# Altium footprint library Microchip.PcbLib: 4 footprints
Each footprint in its own frame and in the unit in brackets; x right, y up, seen from the top. Pads: shape width x height; smd on the part's side, far side on the other; paste and mask are expansions set on the pad; w line width, h text height; cw(c..) or ccw(c..) is an arc to the next point about the centre after c.
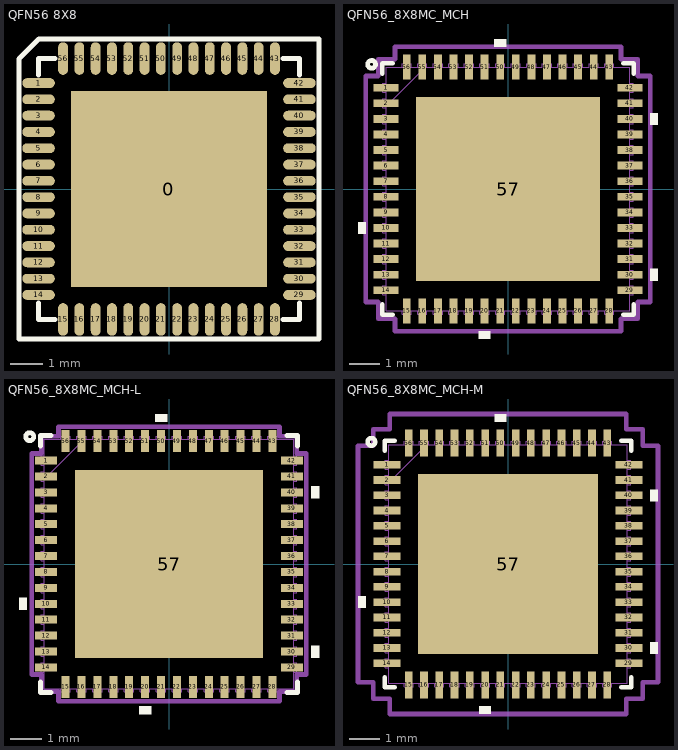
[diagram p0: the footprints below, top view; thin cyan lines are the x and y axes]

## QFN56 8X8 [mm]
pads (57):
  rect 6x6 smd: 0(0,0)
  oval 1x0.3 smd: 1(-4,3.25) 2(-4,2.75) 3(-4,2.25) 4(-4,1.75) 5(-4,1.25) 6(-4,0.75) 7(-4,0.25) 8(-4,-0.25) 9(-4,-0.75) 10(-4,-1.25) 11(-4,-1.75) 12(-4,-2.25) 13(-4,-2.75) 14(-4,-3.25) 29(4,-3.25) 30(4,-2.75) 31(4,-2.25) 32(4,-1.75) 33(4,-1.25) 34(4,-0.75) 35(4,-0.25) 36(4,0.25) 37(4,0.75) 38(4,1.25) 39(4,1.75) 40(4,2.25) 41(4,2.75) 42(4,3.25)
  oval 0.3x1 smd: 15(-3.25,-4) 16(-2.75,-4) 17(-2.25,-4) 18(-1.75,-4) 19(-1.25,-4) 20(-0.75,-4) 21(-0.25,-4) 22(0.25,-4) 23(0.75,-4) 24(1.25,-4) 25(1.75,-4) 26(2.25,-4) 27(2.75,-4) 28(3.25,-4) 43(3.25,4) 44(2.75,4) 45(2.25,4) 46(1.75,4) 47(1.25,4) 48(0.75,4) 49(0.25,4) 50(-0.25,4) 51(-0.75,4) 52(-1.25,4) 53(-1.75,4) 54(-2.25,4) 55(-2.75,4) 56(-3.25,4)
Top Overlay:
  lines w0.152: -4.6,3.989 -4.6,3.993 ; -4,-3.5 -4,-4 -3.5,-4 ; -4,3.5 -4,4 -3.5,4 ; 3.5,-4 4,-4 4,-3.5 ; 3.5,4 4,4 4,3.5 ; -4.6,3.993 -3.993,4.6 4.6,4.6 4.6,-4.6 -4.6,-4.6 -4.6,3.993
3D body "ALSRobot-QFN56 8x8.STEP": height 0.95, standoff 0, extent -4.015,-4.015 4.015,4.015

## QFN56_8X8MC_MCH [mil]
pads (57):
  rect 32x10 smd: 1(-156.5,130) 2(-156.5,110) 3(-156.5,90) 4(-156.5,70) 5(-156.5,50) 6(-156.5,30) 7(-156.5,10) 8(-156.5,-10) 9(-156.5,-30) 10(-156.5,-50) 11(-156.5,-70) 12(-156.5,-90) 13(-156.5,-110) 14(-156.5,-130) 29(156.5,-130) 30(156.5,-110) 31(156.5,-90) 32(156.5,-70) 33(156.5,-50) 34(156.5,-30) 35(156.5,-10) 36(156.5,10) 37(156.5,30) 38(156.5,50) 39(156.5,70) 40(156.5,90) 41(156.5,110) 42(156.5,130)
  rect 10x32 smd: 15(-130,-156.5) 16(-110,-156.5) 17(-90,-156.5) 18(-70,-156.5) 19(-50,-156.5) 20(-30,-156.5) 21(-10,-156.5) 22(10,-156.5) 23(30,-156.5) 24(50,-156.5) 25(70,-156.5) 26(90,-156.5) 27(110,-156.5) 28(130,-156.5) 43(130,156.5) 44(110,156.5) 45(90,156.5) 46(70,156.5) 47(50,156.5) 48(30,156.5) 49(10,156.5) 50(-10,156.5) 51(-30,156.5) 52(-50,156.5) 53(-70,156.5) 54(-90,156.5) 55(-110,156.5) 56(-130,156.5)
  rect 236x236 smd: 57(0,0)
Top Overlay:
  circle w6: c-175,160 r5
  region: -182.5,-42.5 -192.5,-42.5 -192.5,-57.5 -182.5,-57.5
  region: -22.5,-182.5 -37.5,-182.5 -37.5,-192.5 -22.5,-192.5
  region: 182.5,-102.5 192.5,-102.5 192.5,-117.5 182.5,-117.5
  region: 182.5,97.5 192.5,97.5 192.5,82.5 182.5,82.5
  region: -2.5,182.5 -17.5,182.5 -17.5,192.5 -2.5,192.5
  lines w6: -161.5,-148.1 -161.5,-161.5 -148.1,-161.5 ; -161.5,148.1 -161.5,161.5 -148.1,161.5 ; 148.1,-161.5 161.5,-161.5 161.5,-148.1 ; 148.1,161.5 161.5,161.5 161.5,148.1
Top Paste:
  drawing of 64 lines, arcs and shapes, not listed
Top Solder:
  region: -120.5,100.87 -120.5,120.5 120.5,120.5 120.5,100.87
  region: -120.5,69.87 -120.5,85.13 120.5,85.13 120.5,69.87
  region: -120.5,38.87 -120.5,54.13 120.5,54.13 120.5,38.87
  region: -120.5,7.87 -120.5,23.13 120.5,23.13 120.5,7.87
  region: -120.5,-23.13 -120.5,-7.87 120.5,-7.87 120.5,-23.13
  region: -120.5,-54.13 -120.5,-38.87 120.5,-38.87 120.5,-54.13
  region: -120.5,-85.13 -120.5,-69.87 120.5,-69.87 120.5,-85.13
  region: -120.5,-120.5 -120.5,-100.87 120.5,-100.87 120.5,-120.5
  region: -120.5,-120.5 -120.5,120.5 -100.87,120.5 -100.87,-120.5
  region: -69.87,-120.5 -69.87,120.5 -85.13,120.5 -85.13,-120.5
  region: -38.87,-120.5 -38.87,120.5 -54.13,120.5 -54.13,-120.5
  region: -7.87,-120.5 -7.87,120.5 -23.13,120.5 -23.13,-120.5
  region: 23.13,-120.5 23.13,120.5 7.87,120.5 7.87,-120.5
  region: 54.13,-120.5 54.13,120.5 38.87,120.5 38.87,-120.5
  region: 85.13,-120.5 85.13,120.5 69.87,120.5 69.87,-120.5
  region: 100.87,-120.5 100.87,120.5 120.5,120.5 120.5,-120.5
Mechanical 13:
  drawing of 229 lines, arcs and shapes, not listed
Mechanical 15:
  circle w1.97: c0,0 r13.78
  lines w1.97: -19.68,0 19.68,0 ; 0,-19.68 0,19.68
  lines w6: -182.5,-145 -166.5,-145 -166.5,-166.5 -145,-166.5 -145,-182.5 145,-182.5 145,-166.5 166.5,-166.5 166.5,-145 182.5,-145 182.5,145 166.5,145 166.5,166.5 145,166.5 145,182.5 -145,182.5 -145,166.5 -166.5,166.5 -166.5,145 -182.5,145 -182.5,-145
3D body "ALSRobot-QFN56 8x8.STEP": height 37.4, standoff 0, extent -158.07,-158.08 158.08,158.07

## QFN56_8X8MC_MCH-L [mil]
pads (57):
  rect 28x10 smd: 1(-154.5,130) 2(-154.5,110) 3(-154.5,90) 4(-154.5,70) 5(-154.5,50) 6(-154.5,30) 7(-154.5,10) 8(-154.5,-10) 9(-154.5,-30) 10(-154.5,-50) 11(-154.5,-70) 12(-154.5,-90) 13(-154.5,-110) 14(-154.5,-130) 29(154.5,-130) 30(154.5,-110) 31(154.5,-90) 32(154.5,-70) 33(154.5,-50) 34(154.5,-30) 35(154.5,-10) 36(154.5,10) 37(154.5,30) 38(154.5,50) 39(154.5,70) 40(154.5,90) 41(154.5,110) 42(154.5,130)
  rect 10x28 smd: 15(-130,-154.5) 16(-110,-154.5) 17(-90,-154.5) 18(-70,-154.5) 19(-50,-154.5) 20(-30,-154.5) 21(-10,-154.5) 22(10,-154.5) 23(30,-154.5) 24(50,-154.5) 25(70,-154.5) 26(90,-154.5) 27(110,-154.5) 28(130,-154.5) 43(130,154.5) 44(110,154.5) 45(90,154.5) 46(70,154.5) 47(50,154.5) 48(30,154.5) 49(10,154.5) 50(-10,154.5) 51(-30,154.5) 52(-50,154.5) 53(-70,154.5) 54(-90,154.5) 55(-110,154.5) 56(-130,154.5)
  rect 236x236 smd: 57(0,0)
Top Overlay:
  circle w6: c-175,160 r5
  region: -178.5,-42.5 -188.5,-42.5 -188.5,-57.5 -178.5,-57.5
  region: -22.5,-178.5 -37.5,-178.5 -37.5,-188.5 -22.5,-188.5
  region: 178.5,-102.5 188.5,-102.5 188.5,-117.5 178.5,-117.5
  region: 178.5,97.5 188.5,97.5 188.5,82.5 178.5,82.5
  region: -2.5,178.5 -17.5,178.5 -17.5,188.5 -2.5,188.5
  lines w6: -161.5,-148.1 -161.5,-161.5 -148.1,-161.5 ; -161.5,148.1 -161.5,161.5 -148.1,161.5 ; 148.1,-161.5 161.5,-161.5 161.5,-148.1 ; 148.1,161.5 161.5,161.5 161.5,148.1
Top Paste:
  drawing of 64 lines, arcs and shapes, not listed
Top Solder:
  region: -120.5,100.87 -120.5,120.5 120.5,120.5 120.5,100.87
  region: -120.5,69.87 -120.5,85.13 120.5,85.13 120.5,69.87
  region: -120.5,38.87 -120.5,54.13 120.5,54.13 120.5,38.87
  region: -120.5,7.87 -120.5,23.13 120.5,23.13 120.5,7.87
  region: -120.5,-23.13 -120.5,-7.87 120.5,-7.87 120.5,-23.13
  region: -120.5,-54.13 -120.5,-38.87 120.5,-38.87 120.5,-54.13
  region: -120.5,-85.13 -120.5,-69.87 120.5,-69.87 120.5,-85.13
  region: -120.5,-120.5 -120.5,-100.87 120.5,-100.87 120.5,-120.5
  region: -120.5,-120.5 -120.5,120.5 -100.87,120.5 -100.87,-120.5
  region: -69.87,-120.5 -69.87,120.5 -85.13,120.5 -85.13,-120.5
  region: -38.87,-120.5 -38.87,120.5 -54.13,120.5 -54.13,-120.5
  region: -7.87,-120.5 -7.87,120.5 -23.13,120.5 -23.13,-120.5
  region: 23.13,-120.5 23.13,120.5 7.87,120.5 7.87,-120.5
  region: 54.13,-120.5 54.13,120.5 38.87,120.5 38.87,-120.5
  region: 85.13,-120.5 85.13,120.5 69.87,120.5 69.87,-120.5
  region: 100.87,-120.5 100.87,120.5 120.5,120.5 120.5,-120.5
Mechanical 13:
  drawing of 229 lines, arcs and shapes, not listed
Mechanical 15:
  circle w1.97: c0,0 r13.78
  lines w1.97: -19.68,0 19.68,0 ; 0,-19.68 0,19.68
  lines w6: -172.5,-139 -160.5,-139 -160.5,-160.5 -139,-160.5 -139,-172.5 139,-172.5 139,-160.5 160.5,-160.5 160.5,-139 172.5,-139 172.5,139 160.5,139 160.5,160.5 139,160.5 139,172.5 -139,172.5 -139,160.5 -160.5,160.5 -160.5,139 -172.5,139 -172.5,-139
3D body "ALSRobot-QFN56 8x8.STEP": height 37.4, standoff 0, extent -158.07,-158.08 158.08,158.07

## QFN56_8X8MC_MCH-M [mil]
pads (57):
  rect 36x10 smd: 1(-158.5,130) 2(-158.5,110) 3(-158.5,90) 4(-158.5,70) 5(-158.5,50) 6(-158.5,30) 7(-158.5,10) 8(-158.5,-10) 9(-158.5,-30) 10(-158.5,-50) 11(-158.5,-70) 12(-158.5,-90) 13(-158.5,-110) 14(-158.5,-130) 29(158.5,-130) 30(158.5,-110) 31(158.5,-90) 32(158.5,-70) 33(158.5,-50) 34(158.5,-30) 35(158.5,-10) 36(158.5,10) 37(158.5,30) 38(158.5,50) 39(158.5,70) 40(158.5,90) 41(158.5,110) 42(158.5,130)
  rect 10x36 smd: 15(-130,-158.5) 16(-110,-158.5) 17(-90,-158.5) 18(-70,-158.5) 19(-50,-158.5) 20(-30,-158.5) 21(-10,-158.5) 22(10,-158.5) 23(30,-158.5) 24(50,-158.5) 25(70,-158.5) 26(90,-158.5) 27(110,-158.5) 28(130,-158.5) 43(130,158.5) 44(110,158.5) 45(90,158.5) 46(70,158.5) 47(50,158.5) 48(30,158.5) 49(10,158.5) 50(-10,158.5) 51(-30,158.5) 52(-50,158.5) 53(-70,158.5) 54(-90,158.5) 55(-110,158.5) 56(-130,158.5)
  rect 236x236 smd: 57(0,0)
Top Overlay:
  circle w6: c-179,160 r5
  region: -2.5,186.5 -17.5,186.5 -17.5,196.5 -2.5,196.5
  region: 186.5,97.5 196.5,97.5 196.5,82.5 186.5,82.5
  region: 186.5,-102.5 196.5,-102.5 196.5,-117.5 186.5,-117.5
  region: -22.5,-186.5 -37.5,-186.5 -37.5,-196.5 -22.5,-196.5
  region: -186.5,-42.5 -196.5,-42.5 -196.5,-57.5 -186.5,-57.5
  lines w6: -161.5,-148.1 -161.5,-161.5 -148.1,-161.5 ; -161.5,148.1 -161.5,161.5 -148.1,161.5 ; 148.1,-161.5 161.5,-161.5 161.5,-148.1 ; 148.1,161.5 161.5,161.5 161.5,148.1
Top Paste:
  drawing of 64 lines, arcs and shapes, not listed
Top Solder:
  region: 100.87,-120.5 100.87,120.5 120.5,120.5 120.5,-120.5
  region: 85.13,-120.5 85.13,120.5 69.87,120.5 69.87,-120.5
  region: 54.13,-120.5 54.13,120.5 38.87,120.5 38.87,-120.5
  region: 23.13,-120.5 23.13,120.5 7.87,120.5 7.87,-120.5
  region: -7.87,-120.5 -7.87,120.5 -23.13,120.5 -23.13,-120.5
  region: -38.87,-120.5 -38.87,120.5 -54.13,120.5 -54.13,-120.5
  region: -69.87,-120.5 -69.87,120.5 -85.13,120.5 -85.13,-120.5
  region: -120.5,-120.5 -120.5,120.5 -100.87,120.5 -100.87,-120.5
  region: -120.5,-120.5 -120.5,-100.87 120.5,-100.87 120.5,-120.5
  region: -120.5,-85.13 -120.5,-69.87 120.5,-69.87 120.5,-85.13
  region: -120.5,-54.13 -120.5,-38.87 120.5,-38.87 120.5,-54.13
  region: -120.5,-23.13 -120.5,-7.87 120.5,-7.87 120.5,-23.13
  region: -120.5,7.87 -120.5,23.13 120.5,23.13 120.5,7.87
  region: -120.5,38.87 -120.5,54.13 120.5,54.13 120.5,38.87
  region: -120.5,69.87 -120.5,85.13 120.5,85.13 120.5,69.87
  region: -120.5,100.87 -120.5,120.5 120.5,120.5 120.5,100.87
Mechanical 13:
  drawing of 229 lines, arcs and shapes, not listed
Mechanical 15:
  circle w1.97: c0,0 r13.78
  lines w1.97: -19.68,0 19.68,0 ; 0,-19.68 0,19.68
  lines w6: -196.5,-155 -196.5,155 -176.5,155 -176.5,176.5 -155,176.5 -155,196.5 155,196.5 155,176.5 176.5,176.5 176.5,155 196.5,155 196.5,-155 176.5,-155 176.5,-176.5 155,-176.5 155,-196.5 -155,-196.5 -155,-176.5 -176.5,-176.5 -176.5,-155 -196.5,-155
3D body "ALSRobot-QFN56 8x8.STEP": height 37.4, standoff 0, extent -158.07,-158.08 158.08,158.07